# Altium schematic symbol library fHDR6x1.SchLib: 1 symbol
Pins are listed as number, name and electrical type; pins without a type are passive.

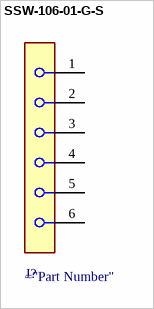
[diagram p0: symbol SSW-106-01-G-S]

## SSW-106-01-G-S
designator J?  (value not drawn)
pins: 1, 2, 3, 4, 5, 6